# Altium integrated library NSC Amplifier.IntLib: 1615 symbols (part 38 of 44)
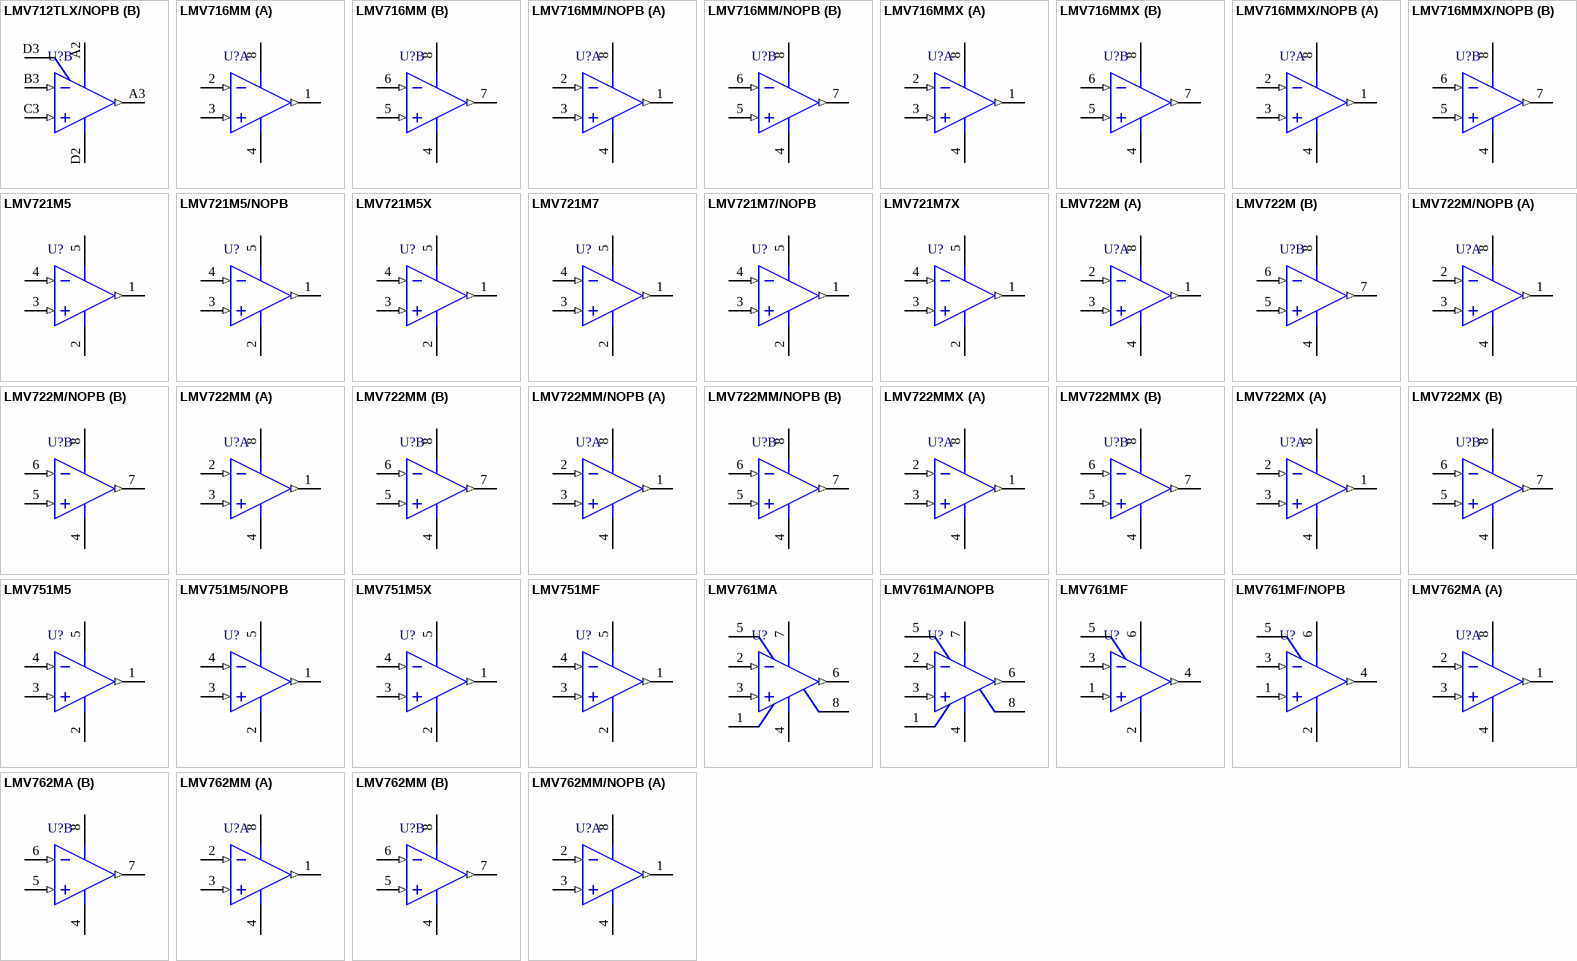
[diagram p119: symbols LMV712TLX/NOPB to LMV762MM/NOPB]

## LMV722M/NOPB
designator U?
10MHz, Low Noise, Low Voltage, and Low Power Operational Amplifier, 8-pin Narrow SOIC, Pb-Free; PartNumber: LMV722M/NOPB; Manufacturer: National Semiconductor; PackageTopMarking: NSZXTT*LMV*722M; PowerWise: Y; CompType: Amplifiers; Published: 1-Mar-2010; DatasheetVersion: Jul-2008; PackageVersion: revM, May-2009; PackageReference: M08A; Publisher: Altium Limited; PackageDescription: SOIC Narrow, 4.9 x 3.9 x 1.45mm, 8 Lead, 1.27mm Pitch; Supplier 1: Digi-Key; Supplier Part Number 1: LMV722M-ND; RoHS: Y; PinCount: 8; Code_JEDEC: MS-012-AA; Code_IPC: SOIC127P600-8; ComponentLink1Description: LMV722 Datasheet; ComponentLink1URL: http://www.national.com/ds/LM/LMV722.pdf; ComponentLink2Description: LMV722 Web Page; ComponentLink2URL: http://www.national.com/pf/LM/LMV722.html; ComponentLink3Description: M08A Package Page; ComponentLink3URL: http://www.national.com/packaging/folders/m08a.html
footprint M08A_N (SOIC, 8-Leads, Body 4.9x3.9mm, Pitch 1.27mm, IPC Medium Density)
footprint M08A_L (SOIC, 8-Leads, Body 4.9x3.9mm, Pitch 1.27mm, IPC High Density)
footprint M08A_M (SOIC, 8-Leads, Body 4.9x3.9mm, Pitch 1.27mm, IPC Low Density)
simulation model LMV721 (SUBCKT)
pins on every part: 4 V- (power), 8 V+ (power)
part A pins: 1 OUTA (out), 2 INA- (in), 3 INA+ (in)
part B pins: 5 INB+ (in), 6 INB- (in), 7 OUTB (out)

## LMV722MM
designator U?
10MHz, Low Noise, Low Voltage, and Low Power Operational Amplifier, 8-pin Mini SOIC; PartNumber: LMV722MM; Manufacturer: National Semiconductor; PackageTopMarking: ZXTT*V722; PowerWise: Y; CompType: Amplifiers; Published: 4-Dec-2008; LatestRevisionDate: 13-Jan-2009; LatestRevisionNote: Sim Model Added.; DatasheetVersion: Jul-2008; PackageVersion: revF, Apr-2008; PackageReference: MUA08A; Publisher: Altium Limited; PackageDescription: MINI SOIC, .118 x .118 x .034in, 8 Lead, .0256in Pitch; Supplier 1: Farnell; Supplier Part Number 1: 9778519; RoHS: N; PinCount: 8; Code_JEDEC: MO-187-AA; ComponentLink1Description: LMV722 Datasheet; ComponentLink1URL: http://www.national.com/ds/LM/LMV722.pdf; ComponentLink2Description: LMV722 Web Page; ComponentLink2URL: http://www.national.com/pf/LM/LMV722.html; ComponentLink3Description: MUA08A Package Page; ComponentLink3URL: http://www.national.com/packaging/folders/mua08a.html
footprint MUA08A_N (TSOP, 8-Leads, Body 3x3mm, Pitch 0.65mm, IPC Medium Density)
footprint MUA08A_L (TSOP, 8-Leads, Body 3x3mm, Pitch 0.65mm, IPC High Density)
footprint MUA08A_M (TSOP, 8-Leads, Body 3x3mm, Pitch 0.65mm, IPC Low Density)
simulation model LMV721 (SUBCKT)
pins on every part: 4 V- (power), 8 V+ (power)
part A pins: 1 OUTA (out), 2 INA- (in), 3 INA+ (in)
part B pins: 5 INB+ (in), 6 INB- (in), 7 OUTB (out)

## LMV722MM/NOPB
designator U?
10MHz, Low Noise, Low Voltage, and Low Power Operational Amplifier, 8-pin Mini SOIC, Pb-Free; PartNumber: LMV722MM/NOPB; Manufacturer: National Semiconductor; PackageTopMarking: ZXTT*V722; PowerWise: Y; CompType: Amplifiers; Published: 1-Mar-2010; DatasheetVersion: Jul-2008; PackageVersion: revF, Apr-2008; PackageReference: MUA08A; Publisher: Altium Limited; PackageDescription: MINI SOIC, .118 x .118 x .034in, 8 Lead, .0256in Pitch; Supplier 1: Digi-Key; Supplier Part Number 1: LMV722MMTR-ND; Supplier 2: Digi-Key; Supplier Part Number 2: LMV722MMCT-ND; Supplier 3: Digi-Key; Supplier Part Number 3: LMV722MMDKR-ND; Supplier 4: Farnell; Supplier Part Number 4: 1276328; RoHS: Y; PinCount: 8; Code_JEDEC: MO-187-AA; ComponentLink1Description: LMV722 Datasheet; ComponentLink1URL: http://www.national.com/ds/LM/LMV722.pdf; ComponentLink2Description: LMV722 Web Page; ComponentLink2URL: http://www.national.com/pf/LM/LMV722.html; ComponentLink3Description: MUA08A Package Page; ComponentLink3URL: http://www.national.com/packaging/folders/mua08a.html
footprint MUA08A_N (TSOP, 8-Leads, Body 3x3mm, Pitch 0.65mm, IPC Medium Density)
footprint MUA08A_L (TSOP, 8-Leads, Body 3x3mm, Pitch 0.65mm, IPC High Density)
footprint MUA08A_M (TSOP, 8-Leads, Body 3x3mm, Pitch 0.65mm, IPC Low Density)
simulation model LMV721 (SUBCKT)
pins on every part: 4 V- (power), 8 V+ (power)
part A pins: 1 OUTA (out), 2 INA- (in), 3 INA+ (in)
part B pins: 5 INB+ (in), 6 INB- (in), 7 OUTB (out)

## LMV722MMX
designator U?
10MHz, Low Noise, Low Voltage, and Low Power Operational Amplifier, 8-pin Mini SOIC; PartNumber: LMV722MMX; Manufacturer: National Semiconductor; PackageTopMarking: ZXTT*V722; PowerWise: Y; CompType: Amplifiers; Published: 1-Mar-2010; DatasheetVersion: Jul-2008; PackageVersion: revF, Apr-2008; PackageReference: MUA08A; Publisher: Altium Limited; PackageDescription: MINI SOIC, .118 x .118 x .034in, 8 Lead, .0256in Pitch; RoHS: N; PinCount: 8; Code_JEDEC: MO-187-AA; ComponentLink1Description: LMV722 Datasheet; ComponentLink1URL: http://www.national.com/ds/LM/LMV722.pdf; ComponentLink2Description: LMV722 Web Page; ComponentLink2URL: http://www.national.com/pf/LM/LMV722.html; ComponentLink3Description: MUA08A Package Page; ComponentLink3URL: http://www.national.com/packaging/folders/mua08a.html
footprint MUA08A_N (TSOP, 8-Leads, Body 3x3mm, Pitch 0.65mm, IPC Medium Density)
footprint MUA08A_L (TSOP, 8-Leads, Body 3x3mm, Pitch 0.65mm, IPC High Density)
footprint MUA08A_M (TSOP, 8-Leads, Body 3x3mm, Pitch 0.65mm, IPC Low Density)
simulation model LMV721 (SUBCKT)
pins on every part: 4 V- (power), 8 V+ (power)
part A pins: 1 OUTA (out), 2 INA- (in), 3 INA+ (in)
part B pins: 5 INB+ (in), 6 INB- (in), 7 OUTB (out)

## LMV722MX
designator U?
10MHz, Low Noise, Low Voltage, and Low Power Operational Amplifier, 8-pin Narrow SOIC; PartNumber: LMV722MX; Manufacturer: National Semiconductor; PackageTopMarking: NSZXTT*LMV*722M; PowerWise: Y; CompType: Amplifiers; Published: 1-Mar-2010; DatasheetVersion: Jul-2008; PackageVersion: revM, May-2009; PackageReference: M08A; Publisher: Altium Limited; PackageDescription: SOIC Narrow, 4.9 x 3.9 x 1.45mm, 8 Lead, 1.27mm Pitch; RoHS: N; PinCount: 8; Code_JEDEC: MS-012-AA; Code_IPC: SOIC127P600-8; ComponentLink1Description: LMV722 Datasheet; ComponentLink1URL: http://www.national.com/ds/LM/LMV722.pdf; ComponentLink2Description: LMV722 Web Page; ComponentLink2URL: http://www.national.com/pf/LM/LMV722.html; ComponentLink3Description: M08A Package Page; ComponentLink3URL: http://www.national.com/packaging/folders/m08a.html
footprint M08A_N (SOIC, 8-Leads, Body 4.9x3.9mm, Pitch 1.27mm, IPC Medium Density)
footprint M08A_L (SOIC, 8-Leads, Body 4.9x3.9mm, Pitch 1.27mm, IPC High Density)
footprint M08A_M (SOIC, 8-Leads, Body 4.9x3.9mm, Pitch 1.27mm, IPC Low Density)
simulation model LMV721 (SUBCKT)
pins on every part: 4 V- (power), 8 V+ (power)
part A pins: 1 OUTA (out), 2 INA- (in), 3 INA+ (in)
part B pins: 5 INB+ (in), 6 INB- (in), 7 OUTB (out)

## LMV751M5
designator U?
Low Noise, Low Vos, Single Op Amp, 5-pin SOT-23; PartNumber: LMV751M5; Manufacturer: National Semiconductor; PackageTopMarking: A32A*XTT; PowerWise: Y; CompType: Amplifiers; Published: 29-May-2009; DatasheetVersion: Jul-2002; PackageVersion: revD, Aug-2008; PackageReference: MF05A; Publisher: Altium Limited; PackageDescription: Molded SOT-23, .115 x .063 x .040 in Body, 5 Lead, .0375 in Pitch; Supplier 1: Farnell; Supplier Part Number 1: 1312611; RoHS: N; PinCount: 5; ComponentLink1Description: LMV751 Datasheet; ComponentLink1URL: http://www.national.com/ds/LM/LMV751.pdf; ComponentLink2Description: LMV751 Web Page; ComponentLink2URL: http://www.national.com/pf/LM/LMV751.html; ComponentLink3Description: MF05A Package Page; ComponentLink3URL: http://www.national.com/packaging/folders/mf05a.html
footprint MF05A_N (SOT23, 5-Leads, Body 2.9x1.6mm, Pitch 0.95mm, Lead Span 2.8mm, IPC Medium Density)
footprint MF05A_L (SOT23, 5-Leads, Body 2.9x1.6mm, Pitch 0.95mm, Lead Span 2.8mm, IPC High Density)
footprint MF05A_M (SOT23, 5-Leads, Body 2.9x1.6mm, Pitch 0.95mm, Lead Span 2.8mm, IPC Low Density)
simulation model LMV751 (SUBCKT)
pins: 1 OUT (out), 2 V- (power), 3 IN+ (in), 4 IN- (in), 5 V+ (power)

## LMV751M5/NOPB
designator U?
Low Noise, Low Vos, Single Op Amp, 5-pin SOT-23, Pb-Free; PartNumber: LMV751M5/NOPB; Manufacturer: National Semiconductor; PackageTopMarking: A32A*XTT; PowerWise: Y; CompType: Amplifiers; Published: 1-Mar-2010; DatasheetVersion: Jul-2002; PackageVersion: revD, Aug-2008; PackageReference: MF05A; Publisher: Altium Limited; PackageDescription: Molded SOT-23, .115 x .063 x .040 in Body, 5 Lead, .0375 in Pitch; Supplier 1: Digi-Key; Supplier Part Number 1: LMV751M5TR-ND; Supplier 2: Digi-Key; Supplier Part Number 2: LMV751M5CT-ND; Supplier 3: Digi-Key; Supplier Part Number 3: LMV751M5DKR-ND; Supplier 4: Farnell; Supplier Part Number 4: 1468905; RoHS: Y; PinCount: 5; ComponentLink1Description: LMV751 Datasheet; ComponentLink1URL: http://www.national.com/ds/LM/LMV751.pdf; ComponentLink2Description: LMV751 Web Page; ComponentLink2URL: http://www.national.com/pf/LM/LMV751.html; ComponentLink3Description: MF05A Package Page; ComponentLink3URL: http://www.national.com/packaging/folders/mf05a.html
footprint MF05A_N (SOT23, 5-Leads, Body 2.9x1.6mm, Pitch 0.95mm, Lead Span 2.8mm, IPC Medium Density)
footprint MF05A_L (SOT23, 5-Leads, Body 2.9x1.6mm, Pitch 0.95mm, Lead Span 2.8mm, IPC High Density)
footprint MF05A_M (SOT23, 5-Leads, Body 2.9x1.6mm, Pitch 0.95mm, Lead Span 2.8mm, IPC Low Density)
simulation model LMV751 (SUBCKT)
pins: 1 OUT (out), 2 V- (power), 3 IN+ (in), 4 IN- (in), 5 V+ (power)

## LMV751M5X
designator U?
Low Noise, Low Vos, Single Op Amp, 5-pin SOT-23; PartNumber: LMV751M5X; Manufacturer: National Semiconductor; PackageTopMarking: A32A*XTT; PowerWise: Y; CompType: Amplifiers; Published: 1-Mar-2010; DatasheetVersion: Jul-2002; PackageVersion: revD, Aug-2008; PackageReference: MF05A; Publisher: Altium Limited; PackageDescription: Molded SOT-23, .115 x .063 x .040 in Body, 5 Lead, .0375 in Pitch; RoHS: N; PinCount: 5; ComponentLink1Description: LMV751 Datasheet; ComponentLink1URL: http://www.national.com/ds/LM/LMV751.pdf; ComponentLink2Description: LMV751 Web Page; ComponentLink2URL: http://www.national.com/pf/LM/LMV751.html; ComponentLink3Description: MF05A Package Page; ComponentLink3URL: http://www.national.com/packaging/folders/mf05a.html
footprint MF05A_N (SOT23, 5-Leads, Body 2.9x1.6mm, Pitch 0.95mm, Lead Span 2.8mm, IPC Medium Density)
footprint MF05A_L (SOT23, 5-Leads, Body 2.9x1.6mm, Pitch 0.95mm, Lead Span 2.8mm, IPC High Density)
footprint MF05A_M (SOT23, 5-Leads, Body 2.9x1.6mm, Pitch 0.95mm, Lead Span 2.8mm, IPC Low Density)
simulation model LMV751 (SUBCKT)
pins: 1 OUT (out), 2 V- (power), 3 IN+ (in), 4 IN- (in), 5 V+ (power)

## LMV751MF
designator U?
Low Noise, Low Vos, Single Op Amp, 5-pin SOT-23; PartNumber: LMV751M5; Manufacturer: National Semiconductor; PackageTopMarking: A32A*XTT; PowerWise: Y; CompType: Amplifiers; Published: 4-Dec-2008; LatestRevisionDate: 13-Jan-2009; LatestRevisionNote: Sim Model Added.; DatasheetVersion: Jul-2002; PackageVersion: revD, Aug-2008; PackageReference: MF05A; Publisher: Altium Limited; PackageDescription: Molded SOT-23, .115 x .063 x .040 in Body, 5 Lead, .0375 in Pitch; RoHS: N; PinCount: 5; ComponentLink1Description: LMV751 Datasheet; ComponentLink1URL: http://www.national.com/ds/LM/LMV751.pdf; ComponentLink2Description: LMV751 Web Page; ComponentLink2URL: http://www.national.com/mpf/LM/LMV751.html; ComponentLink3Description: MF05A Package Page; ComponentLink3URL: http://www.national.com/packaging/folders/mf05a.html
footprint MF05A_N (SOT23, 5-Leads, Body 2.9x1.6mm, Pitch 0.95mm, Lead Span 2.8mm, IPC Medium Density)
footprint MF05A_L (SOT23, 5-Leads, Body 2.9x1.6mm, Pitch 0.95mm, Lead Span 2.8mm, IPC High Density)
footprint MF05A_M (SOT23, 5-Leads, Body 2.9x1.6mm, Pitch 0.95mm, Lead Span 2.8mm, IPC Low Density)
simulation model LMV751 (SUBCKT)
pins: 1 OUT (out), 2 V- (power), 3 IN+ (in), 4 IN- (in), 5 V+ (power)

## LMV761MA
designator U?
Low Voltage, Precision Comparator with Push-Pull Output, 8-pin Narrow SOIC; PartNumber: LMV761MA; Manufacturer: National Semiconductor; PackageTopMarking: NSZXTT*LMV76*1MA; PowerWise: N; CompType: Amplifiers; Published: 4-Dec-2008; DatasheetVersion: Jul-2002; PackageVersion: revM, May-2009; PackageReference: M08A; Publisher: Altium Limited; PackageDescription: SOIC Narrow, 4.9 x 3.9 x 1.45mm, 8 Lead, 1.27mm Pitch; Supplier 1: Farnell; Supplier Part Number 1: 9490590; RoHS: N; PinCount: 8; Code_JEDEC: MS-012-AA; Code_IPC: SOIC127P600-8; ComponentLink1Description: LMV761 Datasheet; ComponentLink1URL: http://www.national.com/ds/LM/LMV761.pdf; ComponentLink2Description: LMV761 Web Page; ComponentLink2URL: http://www.national.com/pf/LM/LMV761.html; ComponentLink3Description: M08A Package Page; ComponentLink3URL: http://www.national.com/packaging/folders/m08a.html
footprint M08A_N (SOIC, 8-Leads, Body 4.9x3.9mm, Pitch 1.27mm, IPC Medium Density)
footprint M08A_L (SOIC, 8-Leads, Body 4.9x3.9mm, Pitch 1.27mm, IPC High Density)
footprint M08A_M (SOIC, 8-Leads, Body 4.9x3.9mm, Pitch 1.27mm, IPC Low Density)
pins: 1 NC, 2 IN- (in), 3 IN+ (in), 4 V- (power), 5 ~{SD}, 6 OUT (out), 7 V+ (power), 8 NC

## LMV761MA/NOPB
designator U?
Low Voltage, Precision Comparator with Push-Pull Output, 8-pin Narrow SOIC, Pb-Free; PartNumber: LMV761MA/NOPB; Manufacturer: National Semiconductor; PackageTopMarking: NSZXTT*LMV76*1MA; PowerWise: N; CompType: Amplifiers; Published: 1-Mar-2010; DatasheetVersion: Jul-2002; PackageVersion: revM, May-2009; PackageReference: M08A; Publisher: Altium Limited; PackageDescription: SOIC Narrow, 4.9 x 3.9 x 1.45mm, 8 Lead, 1.27mm Pitch; Supplier 1: Digi-Key; Supplier Part Number 1: LMV761MA-ND; Supplier 2: Farnell; Supplier Part Number 2: 1559360; RoHS: Y; PinCount: 8; Code_JEDEC: MS-012-AA; Code_IPC: SOIC127P600-8; ComponentLink1Description: LMV761 Datasheet; ComponentLink1URL: http://www.national.com/ds/LM/LMV761.pdf; ComponentLink2Description: LMV761 Web Page; ComponentLink2URL: http://www.national.com/pf/LM/LMV761.html; ComponentLink3Description: M08A Package Page; ComponentLink3URL: http://www.national.com/packaging/folders/m08a.html
footprint M08A_N (SOIC, 8-Leads, Body 4.9x3.9mm, Pitch 1.27mm, IPC Medium Density)
footprint M08A_L (SOIC, 8-Leads, Body 4.9x3.9mm, Pitch 1.27mm, IPC High Density)
footprint M08A_M (SOIC, 8-Leads, Body 4.9x3.9mm, Pitch 1.27mm, IPC Low Density)
pins: 1 NC, 2 IN- (in), 3 IN+ (in), 4 V- (power), 5 ~{SD}, 6 OUT (out), 7 V+ (power), 8 NC

## LMV761MF
designator U?
Low Voltage, Precision Comparator with Push-Pull Output, 6-pin SOT-23; PartNumber: LMV761MF; Manufacturer: National Semiconductor; PackageTopMarking: C22A*XTT; PowerWise: N; CompType: Amplifiers; Published: 4-Dec-2008; DatasheetVersion: Jul-2002; PackageVersion: revC, Sep-2005; PackageReference: MF06A; Publisher: Altium Limited; PackageDescription: Molded SOT-23, .115 x .063 x .040in Body, 6 Lead, .0375in in Pitch; Supplier 1: Farnell; Supplier Part Number 1: 9779388; RoHS: N; PinCount: 6; Code_JEDEC: MO-178-AB; Code_IPC: SOT26A-6; ComponentLink1Description: LMV761 Datasheet; ComponentLink1URL: http://www.national.com/ds/LM/LMV761.pdf; ComponentLink2Description: LMV761 Web Page; ComponentLink2URL: http://www.national.com/pf/LM/LMV761.html; ComponentLink3Description: MF06A Package Page; ComponentLink3URL: http://www.national.com/packaging/folders/mf06a.html
footprint MF06A_N (SOT23, 6-Leads, Body 2.9x1.6mm, Pitch 0.95mm, Lead Span 2.8mm, IPC Medium Density)
footprint MF06A_L (SOT23, 6-Leads, Body 2.9x1.6mm, Pitch 0.95mm, Lead Span 2.8mm, IPC High Density)
footprint MF06A_M (SOT23, 6-Leads, Body 2.9x1.6mm, Pitch 0.95mm, Lead Span 2.8mm, IPC Low Density)
pins: 1 IN+ (in), 2 V- (power), 3 IN- (in), 4 OUT (out), 5 ~{SD}, 6 V+ (power)

## LMV761MF/NOPB
designator U?
Low Voltage, Precision Comparator with Push-Pull Output, 6-pin SOT-23, Pb-Free; PartNumber: LMV761MF/NOPB; Manufacturer: National Semiconductor; PackageTopMarking: C22A*XTT; PowerWise: N; CompType: Amplifiers; Published: 1-Mar-2010; DatasheetVersion: Jul-2002; PackageVersion: revC, Sep-2005; PackageReference: MF06A; Publisher: Altium Limited; PackageDescription: Molded SOT-23, .115 x .063 x .040in Body, 6 Lead, .0375in in Pitch; Supplier 1: Digi-Key; Supplier Part Number 1: LMV761MFTR-ND; Supplier 2: Digi-Key; Supplier Part Number 2: LMV761MFCT-ND; Supplier 3: Digi-Key; Supplier Part Number 3: LMV761MFDKR-ND; RoHS: Y; PinCount: 6; Code_JEDEC: MO-178-AB; Code_IPC: SOT26A-6; ComponentLink1Description: LMV761 Datasheet; ComponentLink1URL: http://www.national.com/ds/LM/LMV761.pdf; ComponentLink2Description: LMV761 Web Page; ComponentLink2URL: http://www.national.com/pf/LM/LMV761.html; ComponentLink3Description: MF06A Package Page; ComponentLink3URL: http://www.national.com/packaging/folders/mf06a.html
footprint MF06A_N (SOT23, 6-Leads, Body 2.9x1.6mm, Pitch 0.95mm, Lead Span 2.8mm, IPC Medium Density)
footprint MF06A_L (SOT23, 6-Leads, Body 2.9x1.6mm, Pitch 0.95mm, Lead Span 2.8mm, IPC High Density)
footprint MF06A_M (SOT23, 6-Leads, Body 2.9x1.6mm, Pitch 0.95mm, Lead Span 2.8mm, IPC Low Density)
pins: 1 IN+ (in), 2 V- (power), 3 IN- (in), 4 OUT (out), 5 ~{SD}, 6 V+ (power)

## LMV762MA
designator U?
Low Voltage, Precision Comparator with Push-Pull Output, 8-pin Narrow SOIC; PartNumber: LMV762MA; Manufacturer: National Semiconductor; PackageTopMarking: NSZXTT*LMV7*62MA; PowerWise: N; CompType: Amplifiers; Published: 4-Dec-2008; DatasheetVersion: Jul-2002; PackageVersion: revM, May-2009; PackageReference: M08A; Publisher: Altium Limited; PackageDescription: SOIC Narrow, 4.9 x 3.9 x 1.45mm, 8 Lead, 1.27mm Pitch; Supplier 1: Farnell; Supplier Part Number 1: 9490582; RoHS: N; PinCount: 8; Code_JEDEC: MS-012-AA; Code_IPC: SOIC127P600-8; ComponentLink1Description: LMV762 Datasheet; ComponentLink1URL: http://www.national.com/ds/LM/LMV762.pdf; ComponentLink2Description: LMV762 Web Page; ComponentLink2URL: http://www.national.com/pf/LM/LMV762.html; ComponentLink3Description: M08A Package Page; ComponentLink3URL: http://www.national.com/packaging/folders/m08a.html
footprint M08A_N (SOIC, 8-Leads, Body 4.9x3.9mm, Pitch 1.27mm, IPC Medium Density)
footprint M08A_L (SOIC, 8-Leads, Body 4.9x3.9mm, Pitch 1.27mm, IPC High Density)
footprint M08A_M (SOIC, 8-Leads, Body 4.9x3.9mm, Pitch 1.27mm, IPC Low Density)
pins on every part: 4 V- (power), 8 V+ (power)
part A pins: 1 OUTA (out), 2 INA- (in), 3 INA+ (in)
part B pins: 5 INB+ (in), 6 INB- (in), 7 OUTB (out)

## LMV762MM
designator U?
Low Voltage, Precision Comparator with Push-Pull Output, 8-pin Mini SOIC; PartNumber: LMV762MM; Manufacturer: National Semiconductor; PackageTopMarking: ZXTT*C23A; PowerWise: N; CompType: Amplifiers; Published: 4-Dec-2008; DatasheetVersion: Jul-2002; PackageVersion: revF, Apr-2008; PackageReference: MUA08A; Publisher: Altium Limited; PackageDescription: MINI SOIC, .118 x .118 x .034in, 8 Lead, .0256in Pitch; Supplier 1: Farnell; Supplier Part Number 1: 9779370; RoHS: N; PinCount: 8; Code_JEDEC: MO-187-AA; ComponentLink1Description: LMV762 Datasheet; ComponentLink1URL: http://www.national.com/ds/LM/LMV762.pdf; ComponentLink2Description: LMV762 Web Page; ComponentLink2URL: http://www.national.com/pf/LM/LMV762.html; ComponentLink3Description: MUA08A Package Page; ComponentLink3URL: http://www.national.com/packaging/folders/mua08a.html
footprint MUA08A_N (TSOP, 8-Leads, Body 3x3mm, Pitch 0.65mm, IPC Medium Density)
footprint MUA08A_L (TSOP, 8-Leads, Body 3x3mm, Pitch 0.65mm, IPC High Density)
footprint MUA08A_M (TSOP, 8-Leads, Body 3x3mm, Pitch 0.65mm, IPC Low Density)
pins on every part: 4 V- (power), 8 V+ (power)
part A pins: 1 OUTA (out), 2 INA- (in), 3 INA+ (in)
part B pins: 5 INB+ (in), 6 INB- (in), 7 OUTB (out)

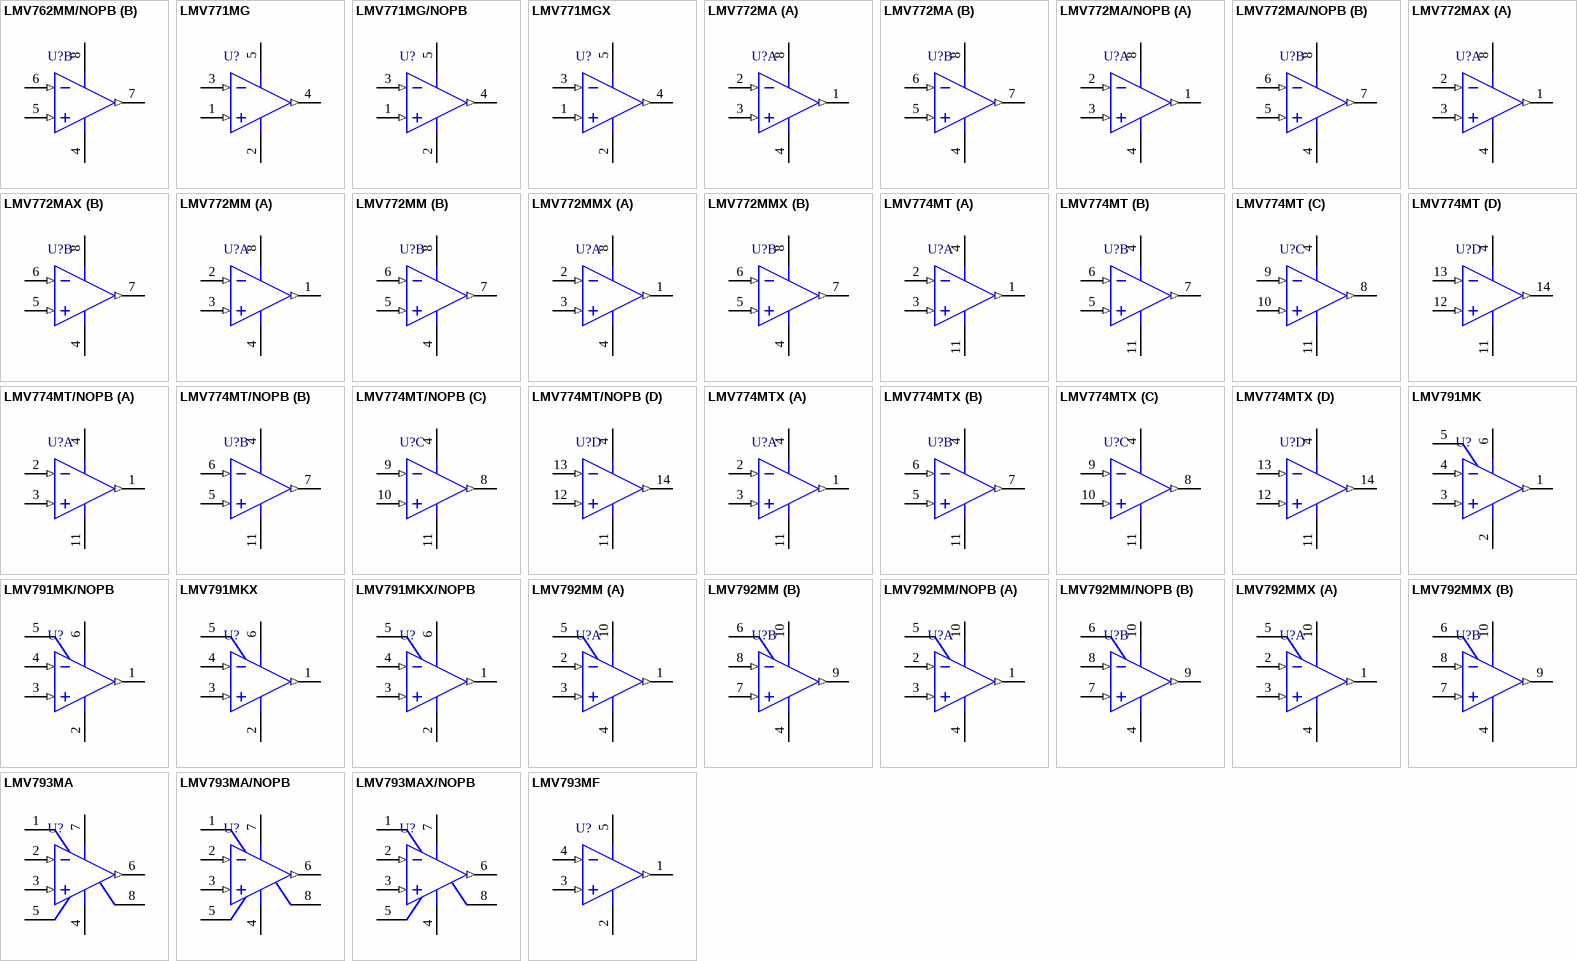
[diagram p71: symbols LMV762MM/NOPB to LMV793MF]

## LMV762MM/NOPB
designator U?
Low Voltage, Precision Comparator with Push-Pull Output, 8-pin Mini SOIC, Pb-Free; PartNumber: LMV762MM/NOPB; Manufacturer: National Semiconductor; PackageTopMarking: ZXTT*C23A; PowerWise: N; CompType: Amplifiers; Published: 1-Mar-2010; DatasheetVersion: Jul-2002; PackageVersion: revF, Apr-2008; PackageReference: MUA08A; Publisher: Altium Limited; PackageDescription: MINI SOIC, .118 x .118 x .034in, 8 Lead, .0256in Pitch; Supplier 1: Digi-Key; Supplier Part Number 1: LMV762MMTR-ND; Supplier 2: Digi-Key; Supplier Part Number 2: LMV762MMCT-ND; Supplier 3: Digi-Key; Supplier Part Number 3: LMV762MMDKR-ND; Supplier 4: Farnell; Supplier Part Number 4: 1496067; RoHS: Y; PinCount: 8; Code_JEDEC: MO-187-AA; ComponentLink1Description: LMV762 Datasheet; ComponentLink1URL: http://www.national.com/ds/LM/LMV762.pdf; ComponentLink2Description: LMV762 Web Page; ComponentLink2URL: http://www.national.com/pf/LM/LMV762.html; ComponentLink3Description: MUA08A Package Page; ComponentLink3URL: http://www.national.com/packaging/folders/mua08a.html
footprint MUA08A_N (TSOP, 8-Leads, Body 3x3mm, Pitch 0.65mm, IPC Medium Density)
footprint MUA08A_L (TSOP, 8-Leads, Body 3x3mm, Pitch 0.65mm, IPC High Density)
footprint MUA08A_M (TSOP, 8-Leads, Body 3x3mm, Pitch 0.65mm, IPC Low Density)
pins on every part: 4 V- (power), 8 V+ (power)
part A pins: 1 OUTA (out), 2 INA- (in), 3 INA+ (in)
part B pins: 5 INB+ (in), 6 INB- (in), 7 OUTB (out)

## LMV771MG
designator U?
Single/Dual/Quad, Low Offset, Low Noise, RRO Operational Amplifiers, 5-pin SC-70; PartNumber: LMV771MG; Manufacturer: National Semiconductor; PackageTopMarking: A75*XTT; PowerWise: N; Published: 4-Dec-2008; LatestRevisionDate: 13-Jan-2009; LatestRevisionNote: Sim Model Added.; DatasheetVersion: Aug-2008; PackageVersion: revD, Jun-2007; PackageReference: MAA05A; Publisher: Altium Limited; PackageDescription: Molded SC-70, 2 x 1.25 x .9mm, 5 Lead, 0.65mm Pitch; RoHS: N; PinCount: 5; CompType: Amplifiers; Code_JEITA: SC-88A; Code_JEDEC: MO-203-AA; Code_IPC: SOT353-5; ComponentLink1Description: LMV771 Datasheet; ComponentLink1URL: http://www.national.com/ds/LM/LMV771.pdf; ComponentLink2Description: LMV771 Web Page; ComponentLink2URL: http://www.national.com/pf/LM/LMV771.html; ComponentLink3Description: MAA05A Package Page; ComponentLink3URL: http://www.national.com/packaging/folders/maa05a.html
footprint MAA05A_N (SOT353, 5-Leads, Body 2x1.3mm, Pitch 0.65mm, Lead Span 2.1mm, IPC Medium Density)
footprint MAA05A_L (SOT353, 5-Leads, Body 2x1.3mm, Pitch 0.65mm, Lead Span 2.1mm, IPC High Density)
footprint MAA05A_M (SOT353, 5-Leads, Body 2x1.3mm, Pitch 0.65mm, Lead Span 2.1mm, IPC Low Density)
simulation model LMV771 (SUBCKT)
pins: 1 IN+ (in), 2 GND (power), 3 IN- (in), 4 OUT (out), 5 V+ (power)

## LMV771MG/NOPB
designator U?
Single/Dual/Quad, Low Offset, Low Noise, RRO Operational Amplifiers, 5-pin SC-70, Pb-Free; PartNumber: LMV771MG/NOPB; Manufacturer: National Semiconductor; PackageTopMarking: A75*XTT; PowerWise: N; Published: 1-Mar-2010; DatasheetVersion: Aug-2008; PackageVersion: revD, Jun-2007; PackageReference: MAA05A; Publisher: Altium Limited; PackageDescription: Molded SC-70, 2 x 1.25 x .9mm, 5 Lead, 0.65mm Pitch; Supplier 1: Digi-Key; Supplier Part Number 1: LMV771MGTR-ND; Supplier 2: Digi-Key; Supplier Part Number 2: LMV771MGCT-ND; Supplier 3: Digi-Key; Supplier Part Number 3: LMV771MGDKR-ND; Supplier 4: Farnell; Supplier Part Number 4: 1199282; RoHS: Y; PinCount: 5; CompType: Amplifiers; Code_JEITA: SC-88A; Code_JEDEC: MO-203-AA; Code_IPC: SOT353-5; ComponentLink1Description: LMV771 Datasheet; ComponentLink1URL: http://www.national.com/ds/LM/LMV771.pdf; ComponentLink2Description: LMV771 Web Page; ComponentLink2URL: http://www.national.com/pf/LM/LMV771.html; ComponentLink3Description: MAA05A Package Page; ComponentLink3URL: http://www.national.com/packaging/folders/maa05a.html
footprint MAA05A_N (SOT353, 5-Leads, Body 2x1.3mm, Pitch 0.65mm, Lead Span 2.1mm, IPC Medium Density)
footprint MAA05A_L (SOT353, 5-Leads, Body 2x1.3mm, Pitch 0.65mm, Lead Span 2.1mm, IPC High Density)
footprint MAA05A_M (SOT353, 5-Leads, Body 2x1.3mm, Pitch 0.65mm, Lead Span 2.1mm, IPC Low Density)
simulation model LMV771 (SUBCKT)
pins: 1 IN+ (in), 2 GND (power), 3 IN- (in), 4 OUT (out), 5 V+ (power)

## LMV771MGX
designator U?
Single/Dual/Quad, Low Offset, Low Noise, RRO Operational Amplifiers, 5-pin SC-70; PartNumber: LMV771MGX; Manufacturer: National Semiconductor; PackageTopMarking: A75*XTT; PowerWise: N; Published: 1-Mar-2010; DatasheetVersion: Aug-2008; PackageVersion: revD, Jun-2007; PackageReference: MAA05A; Publisher: Altium Limited; PackageDescription: Molded SC-70, 2 x 1.25 x .9mm, 5 Lead, 0.65mm Pitch; RoHS: N; PinCount: 5; CompType: Amplifiers; Code_JEITA: SC-88A; Code_JEDEC: MO-203-AA; Code_IPC: SOT353-5; ComponentLink1Description: LMV771 Datasheet; ComponentLink1URL: http://www.national.com/ds/LM/LMV771.pdf; ComponentLink2Description: LMV771 Web Page; ComponentLink2URL: http://www.national.com/pf/LM/LMV771.html; ComponentLink3Description: MAA05A Package Page; ComponentLink3URL: http://www.national.com/packaging/folders/maa05a.html
footprint MAA05A_N (SOT353, 5-Leads, Body 2x1.3mm, Pitch 0.65mm, Lead Span 2.1mm, IPC Medium Density)
footprint MAA05A_L (SOT353, 5-Leads, Body 2x1.3mm, Pitch 0.65mm, Lead Span 2.1mm, IPC High Density)
footprint MAA05A_M (SOT353, 5-Leads, Body 2x1.3mm, Pitch 0.65mm, Lead Span 2.1mm, IPC Low Density)
simulation model LMV771 (SUBCKT)
pins: 1 IN+ (in), 2 GND (power), 3 IN- (in), 4 OUT (out), 5 V+ (power)

## LMV772MA
designator U?
Single/Dual/Quad, Low Offset, Low Noise, RRO Operational Amplifiers, 8-pin Narrow SOIC; PartNumber: LMV772MA; Manufacturer: National Semiconductor; PackageTopMarking: NSZXTT*LMV7*72MA; PowerWise: N; Published: 4-Dec-2008; LatestRevisionDate: 13-Jan-2009; LatestRevisionNote: Sim Model Added.; DatasheetVersion: Aug-2008; PackageVersion: revM, May-2009; PackageReference: M08A; Publisher: Altium Limited; PackageDescription: SOIC Narrow, 4.9 x 3.9 x 1.45mm, 8 Lead, 1.27mm Pitch; Supplier 1: Farnell; Supplier Part Number 1: 8187657; RoHS: N; PinCount: 8; CompType: Amplifiers; Code_JEDEC: MS-012-AA; Code_IPC: SOIC127P600-8; ComponentLink1Description: LMV772 Datasheet; ComponentLink1URL: http://www.national.com/ds/LM/LMV772.pdf; ComponentLink2Description: LMV772 Web Page; ComponentLink2URL: http://www.national.com/pf/LM/LMV772.html; ComponentLink3Description: M08A Package Page; ComponentLink3URL: http://www.national.com/packaging/folders/m08a.html
footprint M08A_N (SOIC, 8-Leads, Body 4.9x3.9mm, Pitch 1.27mm, IPC Medium Density)
footprint M08A_L (SOIC, 8-Leads, Body 4.9x3.9mm, Pitch 1.27mm, IPC High Density)
footprint M08A_M (SOIC, 8-Leads, Body 4.9x3.9mm, Pitch 1.27mm, IPC Low Density)
simulation model LMV771 (SUBCKT)
pins on every part: 4 V- (power), 8 V+ (power)
part A pins: 1 OUTA (out), 2 INA- (in), 3 INA+ (in)
part B pins: 5 INB+ (in), 6 INB- (in), 7 OUTB (out)

## LMV772MA/NOPB
designator U?
Single/Dual/Quad, Low Offset, Low Noise, RRO Operational Amplifiers, 8-pin Narrow SOIC, Pb-Free; PartNumber: LMV772MA/NOPB; Manufacturer: National Semiconductor; PackageTopMarking: NSZXTT*LMV7*72MA; PowerWise: N; Published: 1-Mar-2010; DatasheetVersion: Aug-2008; PackageVersion: revM, May-2009; PackageReference: M08A; Publisher: Altium Limited; PackageDescription: SOIC Narrow, 4.9 x 3.9 x 1.45mm, 8 Lead, 1.27mm Pitch; Supplier 1: Digi-Key; Supplier Part Number 1: LMV772MA-ND; Supplier 2: Farnell; Supplier Part Number 2: 1496068; RoHS: Y; PinCount: 8; CompType: Amplifiers; Code_JEDEC: MS-012-AA; Code_IPC: SOIC127P600-8; ComponentLink1Description: LMV772 Datasheet; ComponentLink1URL: http://www.national.com/ds/LM/LMV772.pdf; ComponentLink2Description: LMV772 Web Page; ComponentLink2URL: http://www.national.com/pf/LM/LMV772.html; ComponentLink3Description: M08A Package Page; ComponentLink3URL: http://www.national.com/packaging/folders/m08a.html
footprint M08A_N (SOIC, 8-Leads, Body 4.9x3.9mm, Pitch 1.27mm, IPC Medium Density)
footprint M08A_L (SOIC, 8-Leads, Body 4.9x3.9mm, Pitch 1.27mm, IPC High Density)
footprint M08A_M (SOIC, 8-Leads, Body 4.9x3.9mm, Pitch 1.27mm, IPC Low Density)
simulation model LMV771 (SUBCKT)
pins on every part: 4 V- (power), 8 V+ (power)
part A pins: 1 OUTA (out), 2 INA- (in), 3 INA+ (in)
part B pins: 5 INB+ (in), 6 INB- (in), 7 OUTB (out)

## LMV772MAX
designator U?
Single/Dual/Quad, Low Offset, Low Noise, RRO Operational Amplifiers, 8-pin Narrow SOIC; PartNumber: LMV772MAX; Manufacturer: National Semiconductor; PackageTopMarking: NSZXTT*LMV7*72MA; PowerWise: N; Published: 1-Mar-2010; DatasheetVersion: Aug-2008; PackageVersion: revM, May-2009; PackageReference: M08A; Publisher: Altium Limited; PackageDescription: SOIC Narrow, 4.9 x 3.9 x 1.45mm, 8 Lead, 1.27mm Pitch; RoHS: N; PinCount: 8; CompType: Amplifiers; Code_JEDEC: MS-012-AA; Code_IPC: SOIC127P600-8; ComponentLink1Description: LMV772 Datasheet; ComponentLink1URL: http://www.national.com/ds/LM/LMV772.pdf; ComponentLink2Description: LMV772 Web Page; ComponentLink2URL: http://www.national.com/pf/LM/LMV772.html; ComponentLink3Description: M08A Package Page; ComponentLink3URL: http://www.national.com/packaging/folders/m08a.html
footprint M08A_N (SOIC, 8-Leads, Body 4.9x3.9mm, Pitch 1.27mm, IPC Medium Density)
footprint M08A_L (SOIC, 8-Leads, Body 4.9x3.9mm, Pitch 1.27mm, IPC High Density)
footprint M08A_M (SOIC, 8-Leads, Body 4.9x3.9mm, Pitch 1.27mm, IPC Low Density)
simulation model LMV771 (SUBCKT)
pins on every part: 4 V- (power), 8 V+ (power)
part A pins: 1 OUTA (out), 2 INA- (in), 3 INA+ (in)
part B pins: 5 INB+ (in), 6 INB- (in), 7 OUTB (out)

## LMV772MM
designator U?
Single/Dual/Quad, Low Offset, Low Noise, RRO Operational Amplifiers, 8-pin Mini SOIC; PartNumber: LMV772MM; Manufacturer: National Semiconductor; PackageTopMarking: ZXTT*A91A; PowerWise: N; Published: 4-Dec-2008; LatestRevisionDate: 13-Jan-2009; LatestRevisionNote: Sim Model Added.; DatasheetVersion: Aug-2008; PackageVersion: revF, Apr-2008; PackageReference: MUA08A; Publisher: Altium Limited; PackageDescription: MINI SOIC, .118 x .118 x .034in, 8 Lead, .0256in Pitch; Supplier 1: Farnell; Supplier Part Number 1: 8187665; RoHS: N; PinCount: 8; CompType: Amplifiers; Code_JEDEC: MO-187-AA; ComponentLink1Description: LMV772 Datasheet; ComponentLink1URL: http://www.national.com/ds/LM/LMV772.pdf; ComponentLink2Description: LMV772 Web Page; ComponentLink2URL: http://www.national.com/pf/LM/LMV772.html; ComponentLink3Description: MUA08A Package Page; ComponentLink3URL: http://www.national.com/packaging/folders/mua08a.html
footprint MUA08A_N (TSOP, 8-Leads, Body 3x3mm, Pitch 0.65mm, IPC Medium Density)
footprint MUA08A_L (TSOP, 8-Leads, Body 3x3mm, Pitch 0.65mm, IPC High Density)
footprint MUA08A_M (TSOP, 8-Leads, Body 3x3mm, Pitch 0.65mm, IPC Low Density)
simulation model LMV771 (SUBCKT)
pins on every part: 4 V- (power), 8 V+ (power)
part A pins: 1 OUTA (out), 2 INA- (in), 3 INA+ (in)
part B pins: 5 INB+ (in), 6 INB- (in), 7 OUTB (out)

## LMV772MMX
designator U?
Single/Dual/Quad, Low Offset, Low Noise, RRO Operational Amplifiers, 8-pin Mini SOIC; PartNumber: LMV772MMX; Manufacturer: National Semiconductor; PackageTopMarking: ZXTT*A91A; PowerWise: N; Published: 1-Mar-2010; DatasheetVersion: Aug-2008; PackageVersion: revF, Apr-2008; PackageReference: MUA08A; Publisher: Altium Limited; PackageDescription: MINI SOIC, .118 x .118 x .034in, 8 Lead, .0256in Pitch; RoHS: N; PinCount: 8; CompType: Amplifiers; Code_JEDEC: MO-187-AA; ComponentLink1Description: LMV772 Datasheet; ComponentLink1URL: http://www.national.com/ds/LM/LMV772.pdf; ComponentLink2Description: LMV772 Web Page; ComponentLink2URL: http://www.national.com/pf/LM/LMV772.html; ComponentLink3Description: MUA08A Package Page; ComponentLink3URL: http://www.national.com/packaging/folders/mua08a.html
footprint MUA08A_N (TSOP, 8-Leads, Body 3x3mm, Pitch 0.65mm, IPC Medium Density)
footprint MUA08A_L (TSOP, 8-Leads, Body 3x3mm, Pitch 0.65mm, IPC High Density)
footprint MUA08A_M (TSOP, 8-Leads, Body 3x3mm, Pitch 0.65mm, IPC Low Density)
simulation model LMV771 (SUBCKT)
pins on every part: 4 V- (power), 8 V+ (power)
part A pins: 1 OUTA (out), 2 INA- (in), 3 INA+ (in)
part B pins: 5 INB+ (in), 6 INB- (in), 7 OUTB (out)

## LMV774MT
designator U?
Single/Dual/Quad, Low Offset, Low Noise, RRO Operational Amplifiers, 14-pin TSSOP; PartNumber: LMV774MT; Manufacturer: National Semiconductor; PackageTopMarking: NSZXYTT*LMV77*4MT; PowerWise: N; Published: 4-Dec-2008; LatestRevisionDate: 13-Jan-2009; LatestRevisionNote: Sim Model Added.; DatasheetVersion: Aug-2008; PackageVersion: revD, Jun-2003; PackageReference: MTC14; Publisher: Altium Limited; PackageDescription: Molded TSSOP, JEDEC, 5 x 4.4 x 0.9mm Body, 14 Lead, 0.65mm Pitch; Supplier 1: Farnell; Supplier Part Number 1: 8187673; RoHS: N; PinCount: 14; CompType: Amplifiers; Code_JEDEC: MO-153-AB-1; ComponentLink1Description: LMV774 Datasheet; ComponentLink1URL: http://www.national.com/ds/LM/LMV774.pdf; ComponentLink2Description: LMV774 Web Page; ComponentLink2URL: http://www.national.com/pf/LM/LMV774.html; ComponentLink3Description: MTC14 Package Page; ComponentLink3URL: http://www.national.com/packaging/folders/mtc14.html
footprint MTC14_N (TSOP, 14-Leads, Body 5x4.4mm, Pitch 0.65mm, IPC Medium Density)
footprint MTC14_L (TSOP, 14-Leads, Body 5x4.4mm, Pitch 0.65mm, IPC High Density)
footprint MTC14_M (TSOP, 14-Leads, Body 5x4.4mm, Pitch 0.65mm, IPC Low Density)
simulation model LMV771 (SUBCKT)
pins on every part: 4 V+ (power), 11 V- (power)
part A pins: 1 OUTA (out), 2 INA- (in), 3 INA+ (in)
part B pins: 5 INB+ (in), 6 INB- (in), 7 OUTB (out)
part C pins: 8 OUTC (out), 9 INC- (in), 10 INC+ (in)
part D pins: 12 IND+ (in), 13 IND- (in), 14 OUTD (out)

## LMV774MT/NOPB
designator U?
Single/Dual/Quad, Low Offset, Low Noise, RRO Operational Amplifiers, 14-pin TSSOP, Pb-Free; PartNumber: LMV774MT/NOPB; Manufacturer: National Semiconductor; PackageTopMarking: NSZXYTT*LMV77*4MT; PowerWise: N; Published: 1-Mar-2010; DatasheetVersion: Aug-2008; PackageVersion: revD, Jun-2003; PackageReference: MTC14; Publisher: Altium Limited; PackageDescription: Molded TSSOP, JEDEC, 5 x 4.4 x 0.9mm Body, 14 Lead, 0.65mm Pitch; Supplier 1: Digi-Key; Supplier Part Number 1: LMV774MT-ND; Supplier 2: Farnell; Supplier Part Number 2: 1496070; RoHS: Y; PinCount: 14; CompType: Amplifiers; Code_JEDEC: MO-153-AB-1; ComponentLink1Description: LMV774 Datasheet; ComponentLink1URL: http://www.national.com/ds/LM/LMV774.pdf; ComponentLink2Description: LMV774 Web Page; ComponentLink2URL: http://www.national.com/pf/LM/LMV774.html; ComponentLink3Description: MTC14 Package Page; ComponentLink3URL: http://www.national.com/packaging/folders/mtc14.html
footprint MTC14_N (TSOP, 14-Leads, Body 5x4.4mm, Pitch 0.65mm, IPC Medium Density)
footprint MTC14_L (TSOP, 14-Leads, Body 5x4.4mm, Pitch 0.65mm, IPC High Density)
footprint MTC14_M (TSOP, 14-Leads, Body 5x4.4mm, Pitch 0.65mm, IPC Low Density)
simulation model LMV771 (SUBCKT)
pins on every part: 4 V+ (power), 11 V- (power)
part A pins: 1 OUTA (out), 2 INA- (in), 3 INA+ (in)
part B pins: 5 INB+ (in), 6 INB- (in), 7 OUTB (out)
part C pins: 8 OUTC (out), 9 INC- (in), 10 INC+ (in)
part D pins: 12 IND+ (in), 13 IND- (in), 14 OUTD (out)

## LMV774MTX
designator U?
Single/Dual/Quad, Low Offset, Low Noise, RRO Operational Amplifiers, 14-pin TSSOP; PartNumber: LMV774MTX; Manufacturer: National Semiconductor; PackageTopMarking: NSZXYTT*LMV77*4MT; PowerWise: N; Published: 1-Mar-2010; DatasheetVersion: Aug-2008; PackageVersion: revD, Jun-2003; PackageReference: MTC14; Publisher: Altium Limited; PackageDescription: Molded TSSOP, JEDEC, 5 x 4.4 x 0.9mm Body, 14 Lead, 0.65mm Pitch; RoHS: N; PinCount: 14; CompType: Amplifiers; Code_JEDEC: MO-153-AB-1; ComponentLink1Description: LMV774 Datasheet; ComponentLink1URL: http://www.national.com/ds/LM/LMV774.pdf; ComponentLink2Description: LMV774 Web Page; ComponentLink2URL: http://www.national.com/pf/LM/LMV774.html; ComponentLink3Description: MTC14 Package Page; ComponentLink3URL: http://www.national.com/packaging/folders/mtc14.html
footprint MTC14_N (TSOP, 14-Leads, Body 5x4.4mm, Pitch 0.65mm, IPC Medium Density)
footprint MTC14_L (TSOP, 14-Leads, Body 5x4.4mm, Pitch 0.65mm, IPC High Density)
footprint MTC14_M (TSOP, 14-Leads, Body 5x4.4mm, Pitch 0.65mm, IPC Low Density)
simulation model LMV771 (SUBCKT)
pins on every part: 4 V+ (power), 11 V- (power)
part A pins: 1 OUTA (out), 2 INA- (in), 3 INA+ (in)
part B pins: 5 INB+ (in), 6 INB- (in), 7 OUTB (out)
part C pins: 8 OUTC (out), 9 INC- (in), 10 INC+ (in)
part D pins: 12 IND+ (in), 13 IND- (in), 14 OUTD (out)

## LMV791MK
designator U?
17 MHz, Low Noise, CMOS Input, 1.8V Operational Amplifiers with Shutdown, 6-pin Tiny SOT23; PartNumber: LMV791MK; Manufacturer: National Semiconductor; PackageTopMarking: AS1A*XTT; PowerWise: Y; Published: 4-Dec-2008; LatestRevisionDate: 13-Jan-2009; LatestRevisionNote: Sim Model Added.; DatasheetVersion: Jun-2008; PackageVersion: revE, Nov-2008; PackageReference: MK06A; Publisher: Altium Limited; PackageDescription: Molded TSOT, 2.97 x 1.65 x 0.87mm Body, 6 Lead, 0.95mm Pitch; Supplier 1: Farnell; Supplier Part Number 1: 1312614; RoHS: N; PinCount: 6; CompType: Amplifiers; Code_JEDEC: MO-193-AA; Code_IPC: SOT26A-6; ComponentLink1Description: LMV791 Datasheet; ComponentLink1URL: http://www.national.com/ds/LM/LMV791.pdf; ComponentLink2Description: LMV791 Web Page; ComponentLink2URL: http://www.national.com/pf/LM/LMV791.html; ComponentLink3Description: MK06A Package Page; ComponentLink3URL: http://www.national.com/packaging/folders/mk06a.html
footprint MK06A_N (SOT23, 6-Leads, Body 3.0x1.7mm, Pitch 0.95mm, Lead Span 2.9mm, IPC Medium Density)
footprint MK06A_L (SOT23, 6-Leads, Body 3.0x1.7mm, Pitch 0.95mm, Lead Span 2.9mm, IPC High Density)
footprint MK06A_M (SOT23, 6-Leads, Body 3.0x1.7mm, Pitch 0.95mm, Lead Span 2.9mm, IPC Low Density)
simulation model LMV791 (SUBCKT)
pins: 1 OUT (out), 2 V- (power), 3 IN+ (in), 4 IN- (in), 5 EN, 6 V+ (power)

## LMV791MK/NOPB
designator U?
17 MHz, Low Noise, CMOS Input, 1.8V Operational Amplifiers with Shutdown, 6-pin Tiny SOT23, Pb-Free; PartNumber: LMV791MK/NOPB; Manufacturer: National Semiconductor; PackageTopMarking: AS1A*XTT; PowerWise: Y; Published: 1-Mar-2010; DatasheetVersion: Jun-2008; PackageVersion: revE, Nov-2008; PackageReference: MK06A; Publisher: Altium Limited; PackageDescription: Molded TSOT, 2.97 x 1.65 x 0.87mm Body, 6 Lead, 0.95mm Pitch; Supplier 1: Digi-Key; Supplier Part Number 1: LMV791MKTR-ND; Supplier 2: Digi-Key; Supplier Part Number 2: LMV791MKCT-ND; Supplier 3: Digi-Key; Supplier Part Number 3: LMV791MKDKR-ND; Supplier 4: Farnell; Supplier Part Number 4: 1559767; RoHS: Y; PinCount: 6; CompType: Amplifiers; Code_JEDEC: MO-193-AA; Code_IPC: SOT26A-6; ComponentLink1Description: LMV791 Datasheet; ComponentLink1URL: http://www.national.com/ds/LM/LMV791.pdf; ComponentLink2Description: LMV791 Web Page; ComponentLink2URL: http://www.national.com/pf/LM/LMV791.html; ComponentLink3Description: MK06A Package Page; ComponentLink3URL: http://www.national.com/packaging/folders/mk06a.html
footprint MK06A_N (SOT23, 6-Leads, Body 3.0x1.7mm, Pitch 0.95mm, Lead Span 2.9mm, IPC Medium Density)
footprint MK06A_L (SOT23, 6-Leads, Body 3.0x1.7mm, Pitch 0.95mm, Lead Span 2.9mm, IPC High Density)
footprint MK06A_M (SOT23, 6-Leads, Body 3.0x1.7mm, Pitch 0.95mm, Lead Span 2.9mm, IPC Low Density)
simulation model LMV791 (SUBCKT)
pins: 1 OUT (out), 2 V- (power), 3 IN+ (in), 4 IN- (in), 5 EN, 6 V+ (power)

## LMV791MKX
designator U?
17 MHz, Low Noise, CMOS Input, 1.8V Operational Amplifiers with Shutdown, 6-pin Tiny SOT23; PartNumber: LMV791MKX; Manufacturer: National Semiconductor; PackageTopMarking: AS1A*XTT; PowerWise: Y; Published: 1-Mar-2010; DatasheetVersion: Jun-2008; PackageVersion: revE, Nov-2008; PackageReference: MK06A; Publisher: Altium Limited; PackageDescription: Molded TSOT, 2.97 x 1.65 x 0.87mm Body, 6 Lead, 0.95mm Pitch; RoHS: N; PinCount: 6; CompType: Amplifiers; Code_JEDEC: MO-193-AA; Code_IPC: SOT26A-6; ComponentLink1Description: LMV791 Datasheet; ComponentLink1URL: http://www.national.com/ds/LM/LMV791.pdf; ComponentLink2Description: LMV791 Web Page; ComponentLink2URL: http://www.national.com/pf/LM/LMV791.html; ComponentLink3Description: MK06A Package Page; ComponentLink3URL: http://www.national.com/packaging/folders/mk06a.html
footprint MK06A_N (SOT23, 6-Leads, Body 3.0x1.7mm, Pitch 0.95mm, Lead Span 2.9mm, IPC Medium Density)
footprint MK06A_L (SOT23, 6-Leads, Body 3.0x1.7mm, Pitch 0.95mm, Lead Span 2.9mm, IPC High Density)
footprint MK06A_M (SOT23, 6-Leads, Body 3.0x1.7mm, Pitch 0.95mm, Lead Span 2.9mm, IPC Low Density)
simulation model LMV791 (SUBCKT)
pins: 1 OUT (out), 2 V- (power), 3 IN+ (in), 4 IN- (in), 5 EN, 6 V+ (power)

## LMV791MKX/NOPB
designator U?
17 MHz, Low Noise, CMOS Input, 1.8V Operational Amplifiers with Shutdown, 6-pin Tiny SOT23, Pb-Free; PartNumber: LMV791MKX/NOPB; Manufacturer: National Semiconductor; PackageTopMarking: AS1A*XTT; PowerWise: Y; Published: 1-Mar-2010; DatasheetVersion: Jun-2008; PackageVersion: revE, Nov-2008; PackageReference: MK06A; Publisher: Altium Limited; PackageDescription: Molded TSOT, 2.97 x 1.65 x 0.87mm Body, 6 Lead, 0.95mm Pitch; Supplier 1: Digi-Key; Supplier Part Number 1: LMV791MKX-ND; RoHS: Y; PinCount: 6; CompType: Amplifiers; Code_JEDEC: MO-193-AA; Code_IPC: SOT26A-6; ComponentLink1Description: LMV791 Datasheet; ComponentLink1URL: http://www.national.com/ds/LM/LMV791.pdf; ComponentLink2Description: LMV791 Web Page; ComponentLink2URL: http://www.national.com/pf/LM/LMV791.html; ComponentLink3Description: MK06A Package Page; ComponentLink3URL: http://www.national.com/packaging/folders/mk06a.html
footprint MK06A_N (SOT23, 6-Leads, Body 3.0x1.7mm, Pitch 0.95mm, Lead Span 2.9mm, IPC Medium Density)
footprint MK06A_L (SOT23, 6-Leads, Body 3.0x1.7mm, Pitch 0.95mm, Lead Span 2.9mm, IPC High Density)
footprint MK06A_M (SOT23, 6-Leads, Body 3.0x1.7mm, Pitch 0.95mm, Lead Span 2.9mm, IPC Low Density)
simulation model LMV791 (SUBCKT)
pins: 1 OUT (out), 2 V- (power), 3 IN+ (in), 4 IN- (in), 5 EN, 6 V+ (power)

## LMV792MM
designator U?
17 MHz, Low Noise, CMOS Input, 1.8V Operational Amplifiers with Shutdown, 10-pin MSOP; PartNumber: LMV792MM; Manufacturer: National Semiconductor; PackageTopMarking: ZXTT*AX2A; PowerWise: Y; Published: 4-Dec-2008; LatestRevisionDate: 13-Jan-2009; LatestRevisionNote: Sim Model Added.; DatasheetVersion: Jun-2008; PackageVersion: revB, Jul-2003; PackageReference: MUB10A; Publisher: Altium Limited; PackageDescription: Mini-SO, Molded, .118 x .118 x .034in Body, 10 Lead, .0197in Pitch; Supplier 1: Farnell; Supplier Part Number 1: 1312615; RoHS: N; PinCount: 10; CompType: Amplifiers; Code_JEDEC: MO-187-BA; ComponentLink1Description: LMV792 Datasheet; ComponentLink1URL: http://www.national.com/ds/LM/LMV792.pdf; ComponentLink2Description: LMV792 Web Page; ComponentLink2URL: http://www.national.com/pf/LM/LMV792.html; ComponentLink3Description: MUB10A Package Page; ComponentLink3URL: http://www.national.com/packaging/folders/mub10a.html
footprint MUB10A_N (TSSOP, 10-Leads, Body 3x3mm, Pitch 0.5mm, IPC Medium Density)
footprint MUB10A_L (TSSOP, 10-Leads, Body 3x3mm, Pitch 0.5mm, IPC High Density)
footprint MUB10A_M (TSSOP, 10-Leads, Body 3x3mm, Pitch 0.5mm, IPC Low Density)
simulation model LMV792 (SUBCKT)
pins on every part: 4 V- (power), 10 V+ (power)
part A pins: 1 OUTA (out), 2 INA- (in), 3 INA+ (in), 5 ENA
part B pins: 6 ENB, 7 INB+ (in), 8 INB- (in), 9 OUTB (out)

## LMV792MM/NOPB
designator U?
17 MHz, Low Noise, CMOS Input, 1.8V Operational Amplifiers with Shutdown, 10-pin Mini SOIC, Pb-Free; PartNumber: LMV792MM/NOPB; Manufacturer: National Semiconductor; PackageTopMarking: ZXTT*AX2A; PowerWise: Y; Published: 1-Mar-2010; DatasheetVersion: Jun-2008; PackageVersion: revB, Jul-2003; PackageReference: MUB10A; Publisher: Altium Limited; PackageDescription: Mini-SO, Molded, .118 x .118 x .034in Body, 10 Lead, .0197in Pitch; Supplier 1: Digi-Key; Supplier Part Number 1: LMV792MMTR-ND; Supplier 2: Digi-Key; Supplier Part Number 2: LMV792MMCT-ND; Supplier 3: Digi-Key; Supplier Part Number 3: LMV792MMDKR-ND; RoHS: Y; PinCount: 10; CompType: Amplifiers; Code_JEDEC: MO-187-BA; ComponentLink1Description: LMV792 Datasheet; ComponentLink1URL: http://www.national.com/ds/LM/LMV792.pdf; ComponentLink2Description: LMV792 Web Page; ComponentLink2URL: http://www.national.com/pf/LM/LMV792.html; ComponentLink3Description: MUB10A Package Page; ComponentLink3URL: http://www.national.com/packaging/folders/mub10a.html
footprint MUB10A_N (TSSOP, 10-Leads, Body 3x3mm, Pitch 0.5mm, IPC Medium Density)
footprint MUB10A_L (TSSOP, 10-Leads, Body 3x3mm, Pitch 0.5mm, IPC High Density)
footprint MUB10A_M (TSSOP, 10-Leads, Body 3x3mm, Pitch 0.5mm, IPC Low Density)
simulation model LMV792 (SUBCKT)
pins on every part: 4 V- (power), 10 V+ (power)
part A pins: 1 OUTA (out), 2 INA- (in), 3 INA+ (in), 5 ENA
part B pins: 6 ENB, 7 INB+ (in), 8 INB- (in), 9 OUTB (out)

## LMV792MMX
designator U?
17 MHz, Low Noise, CMOS Input, 1.8V Operational Amplifiers with Shutdown, 10-pin Mini SOIC; PartNumber: LMV792MMX; Manufacturer: National Semiconductor; PackageTopMarking: ZXTT*AX2A; PowerWise: Y; Published: 1-Mar-2010; DatasheetVersion: Jun-2008; PackageVersion: revB, Jul-2003; PackageReference: MUB10A; Publisher: Altium Limited; PackageDescription: Mini-SO, Molded, .118 x .118 x .034in Body, 10 Lead, .0197in Pitch; RoHS: N; PinCount: 10; CompType: Amplifiers; Code_JEDEC: MO-187-BA; ComponentLink1Description: LMV792 Datasheet; ComponentLink1URL: http://www.national.com/ds/LM/LMV792.pdf; ComponentLink2Description: LMV792 Web Page; ComponentLink2URL: http://www.national.com/pf/LM/LMV792.html; ComponentLink3Description: MUB10A Package Page; ComponentLink3URL: http://www.national.com/packaging/folders/mub10a.html
footprint MUB10A_N (TSSOP, 10-Leads, Body 3x3mm, Pitch 0.5mm, IPC Medium Density)
footprint MUB10A_L (TSSOP, 10-Leads, Body 3x3mm, Pitch 0.5mm, IPC High Density)
footprint MUB10A_M (TSSOP, 10-Leads, Body 3x3mm, Pitch 0.5mm, IPC Low Density)
simulation model LMV792 (SUBCKT)
pins on every part: 4 V- (power), 10 V+ (power)
part A pins: 1 OUTA (out), 2 INA- (in), 3 INA+ (in), 5 ENA
part B pins: 6 ENB, 7 INB+ (in), 8 INB- (in), 9 OUTB (out)

## LMV793MA
designator U?
88 MHz, Low Noise, 1.8V CMOS Input, Decompensated Operational Amplifiers, 8-pin Narrow SOIC; PartNumber: LMV793MA; Manufacturer: National Semiconductor; PackageTopMarking: NSZXTT*LMV7*93MA; PowerWise: Y; Published: 4-Dec-2008; DatasheetVersion: Jun-2008; PackageVersion: revM, May-2009; PackageReference: M08A; Publisher: Altium Limited; PackageDescription: SOIC Narrow, 4.9 x 3.9 x 1.45mm, 8 Lead, 1.27mm Pitch; Supplier 1: Farnell; Supplier Part Number 1: 1342339; RoHS: Y; PinCount: 8; CompType: Amplifiers; Code_JEDEC: MS-012-AA; Code_IPC: SOIC127P600-8; ComponentLink1Description: LMV793 Datasheet; ComponentLink1URL: http://www.national.com/ds/LM/LMV793.pdf; ComponentLink2Description: LMV793 Web Page; ComponentLink2URL: http://www.national.com/pf/LM/LMV793.html; ComponentLink3Description: M08A Package Page; ComponentLink3URL: http://www.national.com/packaging/folders/m08a.html
footprint M08A_N (SOIC, 8-Leads, Body 4.9x3.9mm, Pitch 1.27mm, IPC Medium Density)
footprint M08A_L (SOIC, 8-Leads, Body 4.9x3.9mm, Pitch 1.27mm, IPC High Density)
footprint M08A_M (SOIC, 8-Leads, Body 4.9x3.9mm, Pitch 1.27mm, IPC Low Density)
pins: 1 NC, 2 IN- (in), 3 IN+ (in), 4 V- (power), 5 NC, 6 OUT (out), 7 V+ (power), 8 NC

## LMV793MA/NOPB
designator U?
88 MHz, Low Noise, 1.8V CMOS Input, Decompensated Operational Amplifiers, 8-pin Narrow SOIC, Pb-Free; PartNumber: LMV793MA/NOPB; Manufacturer: National Semiconductor; PackageTopMarking: NSZXTT*LMV7*93MA; PowerWise: Y; Published: 1-Mar-2010; DatasheetVersion: Jun-2008; PackageVersion: revM, May-2009; PackageReference: M08A; Publisher: Altium Limited; PackageDescription: SOIC Narrow, 4.9 x 3.9 x 1.45mm, 8 Lead, 1.27mm Pitch; Supplier 1: Digi-Key; Supplier Part Number 1: LMV793MA-ND; RoHS: Y; PinCount: 8; CompType: Amplifiers; Code_JEDEC: MS-012-AA; Code_IPC: SOIC127P600-8; ComponentLink1Description: LMV793 Datasheet; ComponentLink1URL: http://www.national.com/ds/LM/LMV793.pdf; ComponentLink2Description: LMV793 Web Page; ComponentLink2URL: http://www.national.com/pf/LM/LMV793.html; ComponentLink3Description: M08A Package Page; ComponentLink3URL: http://www.national.com/packaging/folders/m08a.html
footprint M08A_N (SOIC, 8-Leads, Body 4.9x3.9mm, Pitch 1.27mm, IPC Medium Density)
footprint M08A_L (SOIC, 8-Leads, Body 4.9x3.9mm, Pitch 1.27mm, IPC High Density)
footprint M08A_M (SOIC, 8-Leads, Body 4.9x3.9mm, Pitch 1.27mm, IPC Low Density)
simulation model LMV793 (SUBCKT)
pins: 1 NC, 2 IN- (in), 3 IN+ (in), 4 V- (power), 5 NC, 6 OUT (out), 7 V+ (power), 8 NC